# Altium footprint library Footprints.PcbLib: 2 footprints
Each footprint in its own frame and in the unit in brackets; x right, y up, seen from the top. Pads: shape width x height; smd on the part's side, far side on the other; paste and mask are expansions set on the pad; w line width, h text height; cw(c..) or ccw(c..) is an arc to the next point about the centre after c.
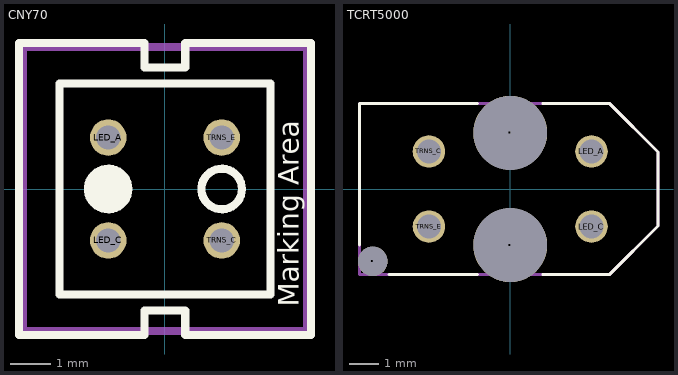
[diagram p0: the footprints below, top view; thin cyan lines are the x and y axes]

## CNY70 [mm] "CNY70 photointerrupter"
height 6
pads (4):
  round 0.9 hole 0.6: LED_A(-1.4,1.27) LED_C(-1.4,-1.27) TRNS_C(1.4,-1.27) TRNS_E(1.4,1.27)
Top Overlay:
  circle w0.2: c-1.4,0 r0.5
  circle w0.2: c1.4,0 r0.5
  region: -1.9,0 -1.9,0.099 -1.824,0.283 -1.683,0.424 -1.499,0.5 -1.4,0.5 -1.301,0.5 -1.117,0.424 -0.976,0.283 -0.9,0.099 -0.9,0 -0.9,-0.099 -0.976,-0.283 -1.117,-0.424 -1.301,-0.5 -1.4,-0.5 -1.499,-0.5 -1.683,-0.424 -1.824,-0.283 -1.9,-0.099
  lines w0.2: -3.6,-3.6 -0.5,-3.6 -0.5,-3 0.5,-3 0.5,-3.6 3.6,-3.6 3.6,3.6 0.5,3.6 0.5,3 -0.5,3 -0.5,3.6 -3.6,3.6 -3.6,-3.6 ; -2.6,-2.6 2.6,-2.6 2.6,2.6 -2.6,2.6 -2.6,-2.6
  text "Marking Area" at 3.3,-2.9 h0.5
Mechanical 13:
  lines w0.2: -3.5,-3.5 3.5,-3.5 3.5,3.5 -3.5,3.5 -3.5,-3.5
3D body "cny70.SLDPRT": height 6, standoff -5.75, extent -3.5,-3.5 3.5,3.5

## TCRT5000 [mm] "TCRT5000 photointerrupter"
height 7
pads (7):
  round 1 hole 1: .(-4.65,-2.45)
  round 2.5 hole 2.5: .(0,-1.9) .(0,1.9)
  round 1.1 hole 0.8: LED_A(2.75,1.27) LED_C(2.75,-1.27) TRNS_C(-2.75,1.27) TRNS_E(-2.75,-1.27)
Top Overlay:
  lines w0.1: -5.1,-1.9 -5.1,2.9 -1.1,2.9 ; -4.1,-2.9 -1.1,-2.9 ; 1.1,-2.9 3.35,-2.9 5,-1.25 5,1.25 3.35,2.9 1.1,2.9
Mechanical 13:
  lines w0.1: -5.1,-2.9 3.35,-2.9 5,-1.25 5,1.25 3.35,2.9 -5.1,2.9 -5.1,-2.9
3D body "TCRT5000.stp": height 7.02, standoff -3.5, extent -5.1,-3.5 5.1,3.5